# Altium schematic symbol library Allwinner T113-S3.SCHLIB: 1 symbol
Pins are listed as number, name and electrical type; pins without a type are passive.

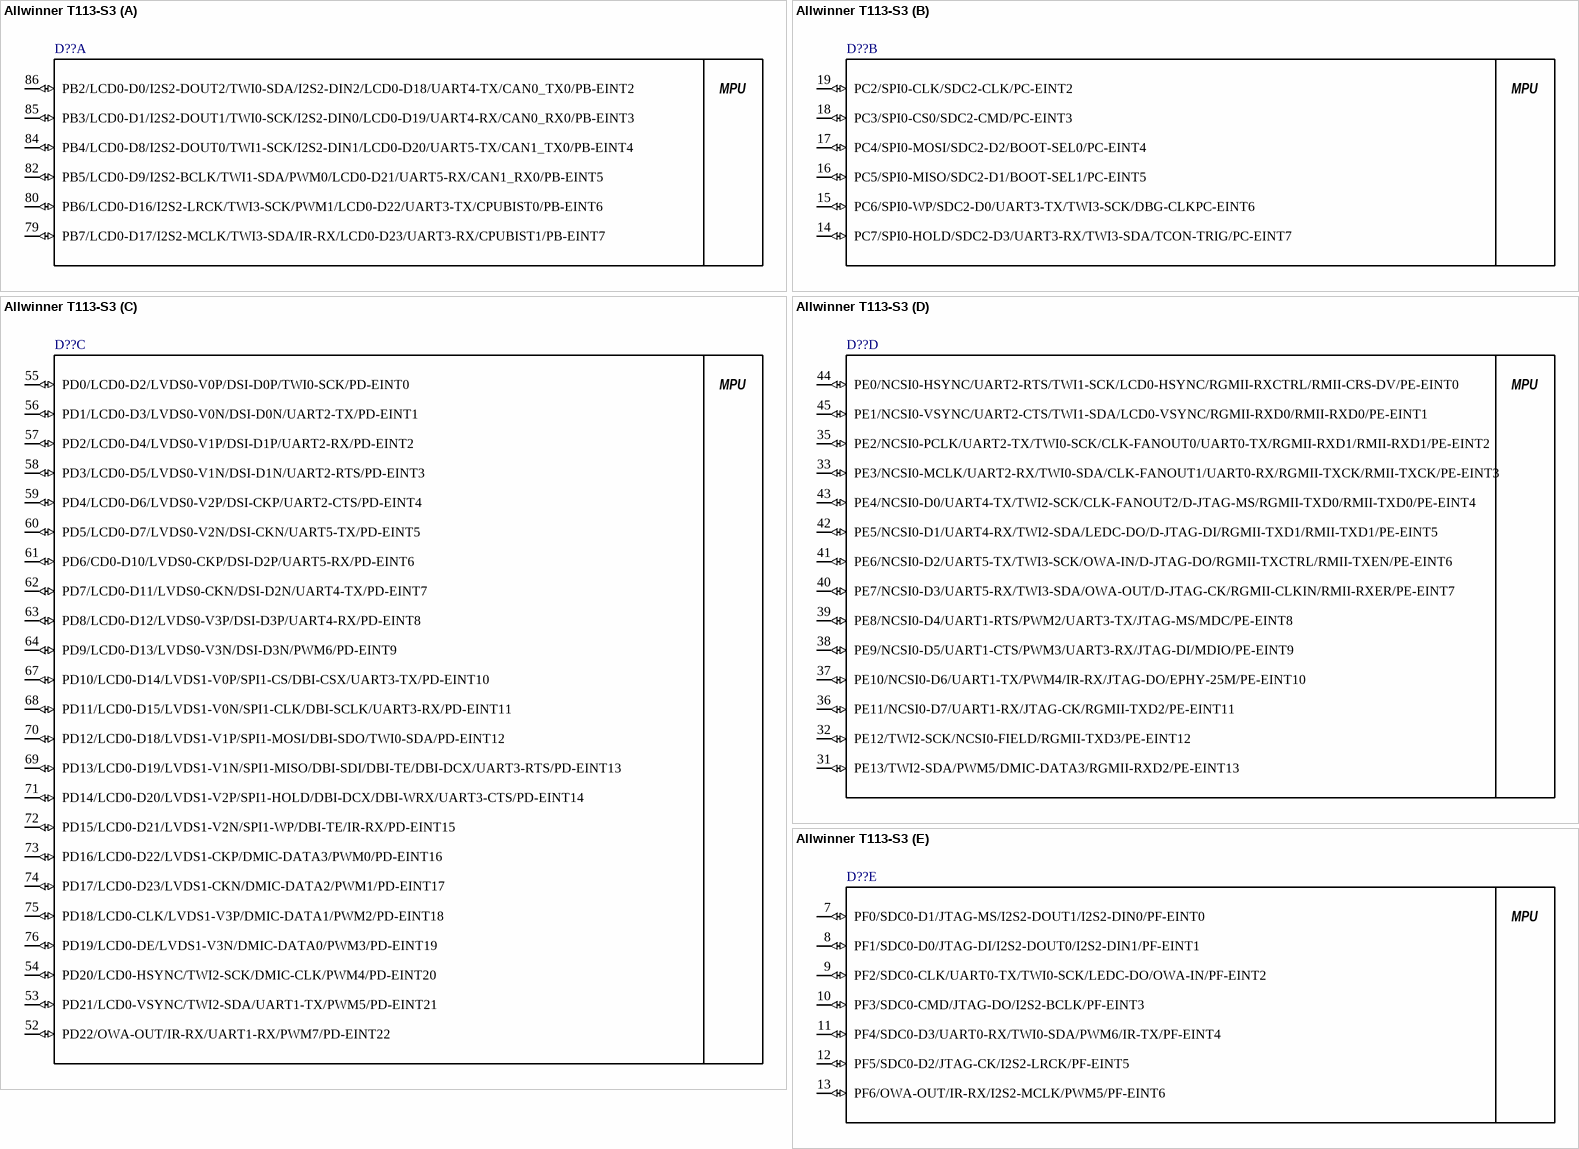
[diagram p0: symbol Allwinner T113-S3]

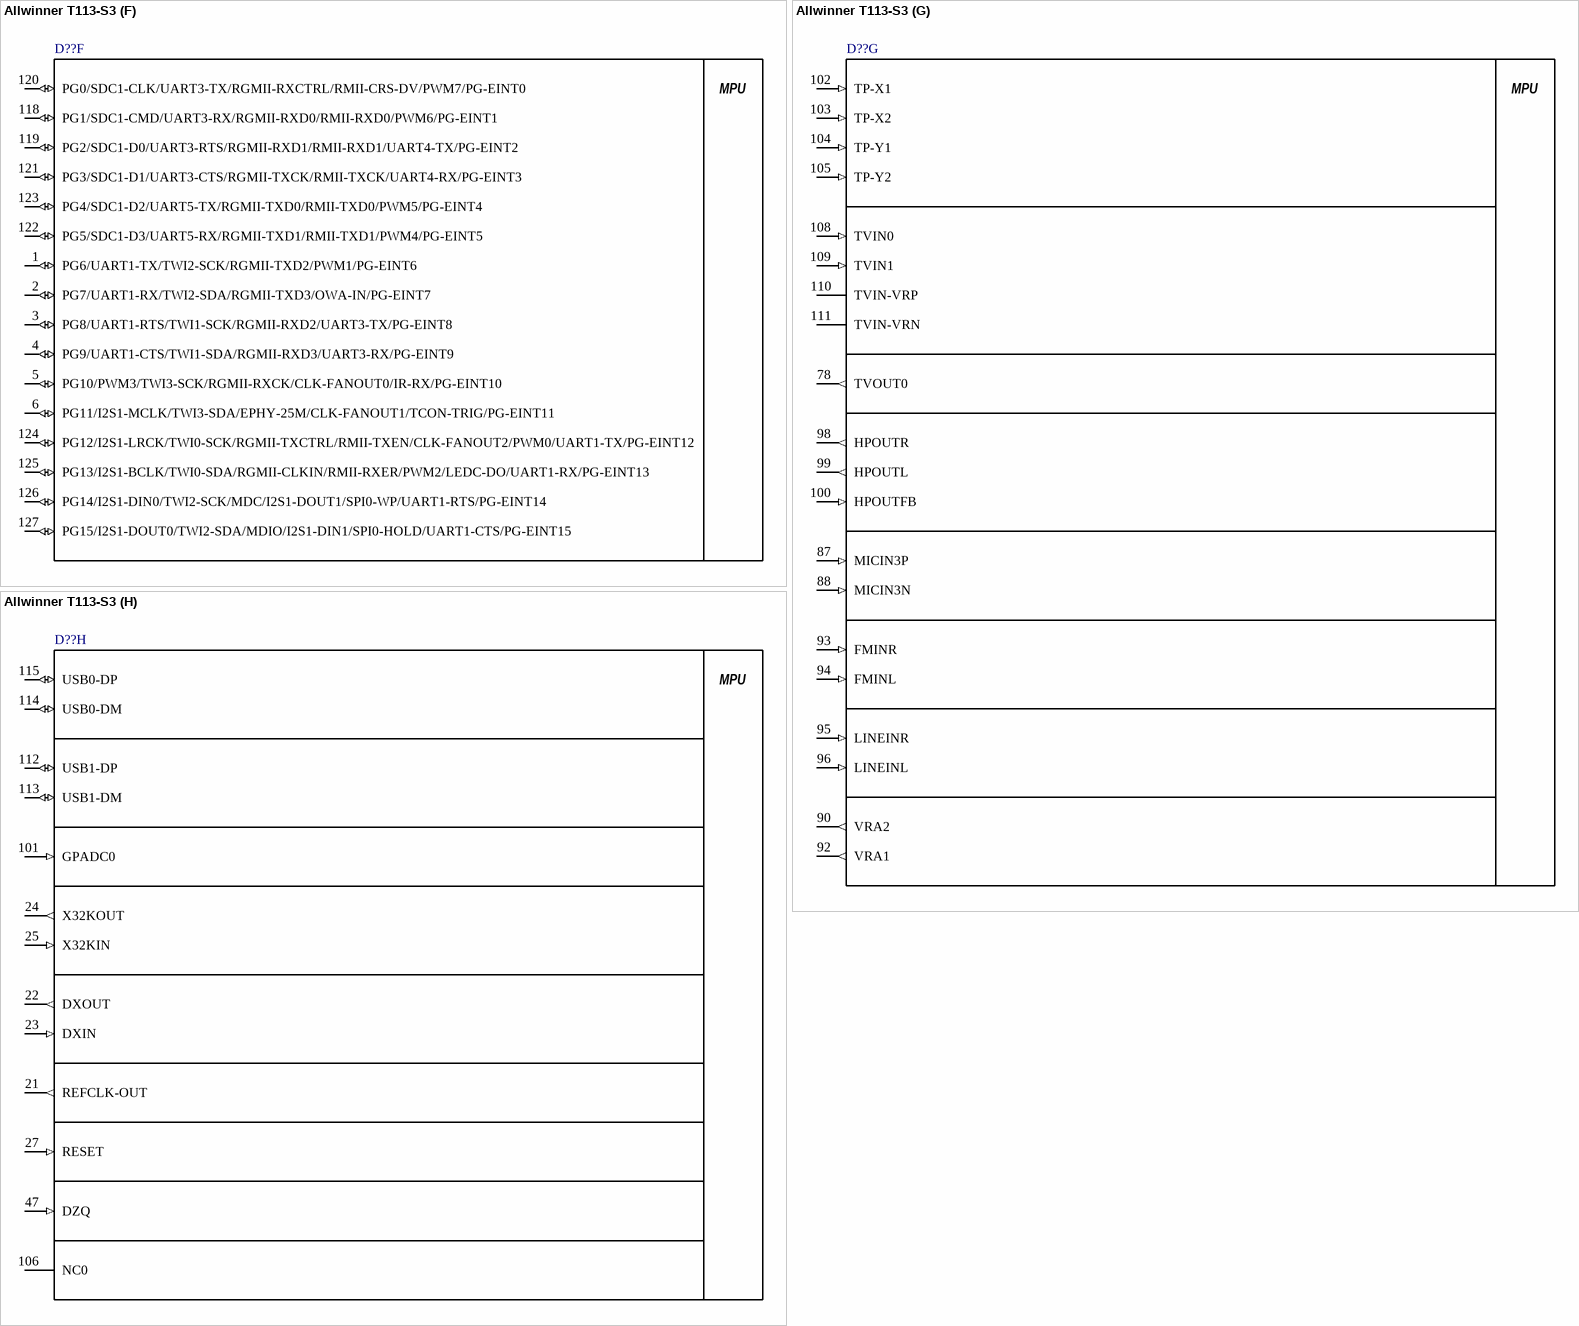
[diagram p1: symbol Allwinner T113-S3]

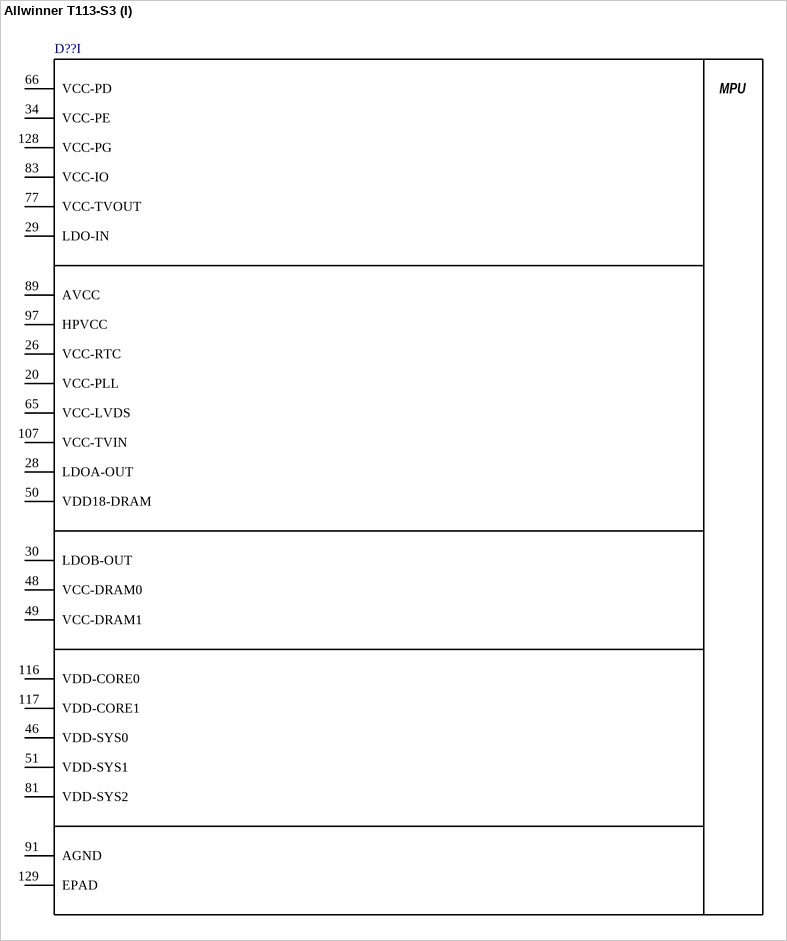
[diagram p2: symbol Allwinner T113-S3]

## Allwinner T113-S3
designator D??, comment T113-S3  (value not drawn)
Integrated circuit; Manufacturer: Allwinner; NameFromManufacturer: Allwinner T113-S3; Part Number: T113-S3; Код SL: *; Place: *; Value: *; Даташит: *; Rem: *; Check: *; Цена ZIP: *; Статус ZIP: *; Примечание ПЭ3: *; Склад ZIP: *
footprint TSQFP40P1600X1600X160_HS-129N (TSQFP, 128-Leads, Body 14.00x14.00mm, Pitch 0.40mm, Thermal Pad 5.72x5.72mm, IPC Medium Density)
part A pins: 79 PB7/LCD0-D17/I2S2-MCLK/TWI3-SDA/IR-RX/LCD0-D23/UART3-RX/CPUBIST1/PB-EINT7 (io), 80 PB6/LCD0-D16/I2S2-LRCK/TWI3-SCK/PWM1/LCD0-D22/UART3-TX/CPUBIST0/PB-EINT6 (io), 82 PB5/LCD0-D9/I2S2-BCLK/TWI1-SDA/PWM0/LCD0-D21/UART5-RX/CAN1_RX0/PB-EINT5 (io), 84 PB4/LCD0-D8/I2S2-DOUT0/TWI1-SCK/I2S2-DIN1/LCD0-D20/UART5-TX/CAN1_TX0/PB-EINT4 (io), 85 PB3/LCD0-D1/I2S2-DOUT1/TWI0-SCK/I2S2-DIN0/LCD0-D19/UART4-RX/CAN0_RX0/PB-EINT3 (io), 86 PB2/LCD0-D0/I2S2-DOUT2/TWI0-SDA/I2S2-DIN2/LCD0-D18/UART4-TX/CAN0_TX0/PB-EINT2 (io)
part B pins: 14 PC7/SPI0-HOLD/SDC2-D3/UART3-RX/TWI3-SDA/TCON-TRIG/PC-EINT7 (io), 15 PC6/SPI0-WP/SDC2-D0/UART3-TX/TWI3-SCK/DBG-CLKPC-EINT6 (io), 16 PC5/SPI0-MISO/SDC2-D1/BOOT-SEL1/PC-EINT5 (io), 17 PC4/SPI0-MOSI/SDC2-D2/BOOT-SEL0/PC-EINT4 (io), 18 PC3/SPI0-CS0/SDC2-CMD/PC-EINT3 (io), 19 PC2/SPI0-CLK/SDC2-CLK/PC-EINT2 (io)
part C pins: 52 PD22/OWA-OUT/IR-RX/UART1-RX/PWM7/PD-EINT22 (io), 53 PD21/LCD0-VSYNC/TWI2-SDA/UART1-TX/PWM5/PD-EINT21 (io), 54 PD20/LCD0-HSYNC/TWI2-SCK/DMIC-CLK/PWM4/PD-EINT20 (io), 55 PD0/LCD0-D2/LVDS0-V0P/DSI-D0P/TWI0-SCK/PD-EINT0 (io), 56 PD1/LCD0-D3/LVDS0-V0N/DSI-D0N/UART2-TX/PD-EINT1 (io), 57 PD2/LCD0-D4/LVDS0-V1P/DSI-D1P/UART2-RX/PD-EINT2 (io), 58 PD3/LCD0-D5/LVDS0-V1N/DSI-D1N/UART2-RTS/PD-EINT3 (io), 59 PD4/LCD0-D6/LVDS0-V2P/DSI-CKP/UART2-CTS/PD-EINT4 (io), 60 PD5/LCD0-D7/LVDS0-V2N/DSI-CKN/UART5-TX/PD-EINT5 (io), 61 PD6/CD0-D10/LVDS0-CKP/DSI-D2P/UART5-RX/PD-EINT6 (io), 62 PD7/LCD0-D11/LVDS0-CKN/DSI-D2N/UART4-TX/PD-EINT7 (io), 63 PD8/LCD0-D12/LVDS0-V3P/DSI-D3P/UART4-RX/PD-EINT8 (io), 64 PD9/LCD0-D13/LVDS0-V3N/DSI-D3N/PWM6/PD-EINT9 (io), 67 PD10/LCD0-D14/LVDS1-V0P/SPI1-CS/DBI-CSX/UART3-TX/PD-EINT10 (io), 68 PD11/LCD0-D15/LVDS1-V0N/SPI1-CLK/DBI-SCLK/UART3-RX/PD-EINT11 (io), 69 PD13/LCD0-D19/LVDS1-V1N/SPI1-MISO/DBI-SDI/DBI-TE/DBI-DCX/UART3-RTS/PD-EINT13 (io), 70 PD12/LCD0-D18/LVDS1-V1P/SPI1-MOSI/DBI-SDO/TWI0-SDA/PD-EINT12 (io), 71 PD14/LCD0-D20/LVDS1-V2P/SPI1-HOLD/DBI-DCX/DBI-WRX/UART3-CTS/PD-EINT14 (io), 72 PD15/LCD0-D21/LVDS1-V2N/SPI1-WP/DBI-TE/IR-RX/PD-EINT15 (io), 73 PD16/LCD0-D22/LVDS1-CKP/DMIC-DATA3/PWM0/PD-EINT16 (io), 74 PD17/LCD0-D23/LVDS1-CKN/DMIC-DATA2/PWM1/PD-EINT17 (io), 75 PD18/LCD0-CLK/LVDS1-V3P/DMIC-DATA1/PWM2/PD-EINT18 (io), 76 PD19/LCD0-DE/LVDS1-V3N/DMIC-DATA0/PWM3/PD-EINT19 (io)
part D pins: 31 PE13/TWI2-SDA/PWM5/DMIC-DATA3/RGMII-RXD2/PE-EINT13 (io), 32 PE12/TWI2-SCK/NCSI0-FIELD/RGMII-TXD3/PE-EINT12 (io), 33 PE3/NCSI0-MCLK/UART2-RX/TWI0-SDA/CLK-FANOUT1/UART0-RX/RGMII-TXCK/RMII-TXCK/PE-EINT3 (io), 35 PE2/NCSI0-PCLK/UART2-TX/TWI0-SCK/CLK-FANOUT0/UART0-TX/RGMII-RXD1/RMII-RXD1/PE-EINT2 (io), 36 PE11/NCSI0-D7/UART1-RX/JTAG-CK/RGMII-TXD2/PE-EINT11 (io), 37 PE10/NCSI0-D6/UART1-TX/PWM4/IR-RX/JTAG-DO/EPHY-25M/PE-EINT10 (io), 38 PE9/NCSI0-D5/UART1-CTS/PWM3/UART3-RX/JTAG-DI/MDIO/PE-EINT9 (io), 39 PE8/NCSI0-D4/UART1-RTS/PWM2/UART3-TX/JTAG-MS/MDC/PE-EINT8 (io), 40 PE7/NCSI0-D3/UART5-RX/TWI3-SDA/OWA-OUT/D-JTAG-CK/RGMII-CLKIN/RMII-RXER/PE-EINT7 (io), 41 PE6/NCSI0-D2/UART5-TX/TWI3-SCK/OWA-IN/D-JTAG-DO/RGMII-TXCTRL/RMII-TXEN/PE-EINT6 (io), 42 PE5/NCSI0-D1/UART4-RX/TWI2-SDA/LEDC-DO/D-JTAG-DI/RGMII-TXD1/RMII-TXD1/PE-EINT5 (io), 43 PE4/NCSI0-D0/UART4-TX/TWI2-SCK/CLK-FANOUT2/D-JTAG-MS/RGMII-TXD0/RMII-TXD0/PE-EINT4 (io), 44 PE0/NCSI0-HSYNC/UART2-RTS/TWI1-SCK/LCD0-HSYNC/RGMII-RXCTRL/RMII-CRS-DV/PE-EINT0 (io), 45 PE1/NCSI0-VSYNC/UART2-CTS/TWI1-SDA/LCD0-VSYNC/RGMII-RXD0/RMII-RXD0/PE-EINT1 (io)
part E pins: 7 PF0/SDC0-D1/JTAG-MS/I2S2-DOUT1/I2S2-DIN0/PF-EINT0 (io), 8 PF1/SDC0-D0/JTAG-DI/I2S2-DOUT0/I2S2-DIN1/PF-EINT1 (io), 9 PF2/SDC0-CLK/UART0-TX/TWI0-SCK/LEDC-DO/OWA-IN/PF-EINT2 (io), 10 PF3/SDC0-CMD/JTAG-DO/I2S2-BCLK/PF-EINT3 (io), 11 PF4/SDC0-D3/UART0-RX/TWI0-SDA/PWM6/IR-TX/PF-EINT4 (io), 12 PF5/SDC0-D2/JTAG-CK/I2S2-LRCK/PF-EINT5 (io), 13 PF6/OWA-OUT/IR-RX/I2S2-MCLK/PWM5/PF-EINT6 (io)
part F pins: 1 PG6/UART1-TX/TWI2-SCK/RGMII-TXD2/PWM1/PG-EINT6 (io), 2 PG7/UART1-RX/TWI2-SDA/RGMII-TXD3/OWA-IN/PG-EINT7 (io), 3 PG8/UART1-RTS/TWI1-SCK/RGMII-RXD2/UART3-TX/PG-EINT8 (io), 4 PG9/UART1-CTS/TWI1-SDA/RGMII-RXD3/UART3-RX/PG-EINT9 (io), 5 PG10/PWM3/TWI3-SCK/RGMII-RXCK/CLK-FANOUT0/IR-RX/PG-EINT10 (io), 6 PG11/I2S1-MCLK/TWI3-SDA/EPHY-25M/CLK-FANOUT1/TCON-TRIG/PG-EINT11 (io), 118 PG1/SDC1-CMD/UART3-RX/RGMII-RXD0/RMII-RXD0/PWM6/PG-EINT1 (io), 119 PG2/SDC1-D0/UART3-RTS/RGMII-RXD1/RMII-RXD1/UART4-TX/PG-EINT2 (io), 120 PG0/SDC1-CLK/UART3-TX/RGMII-RXCTRL/RMII-CRS-DV/PWM7/PG-EINT0 (io), 121 PG3/SDC1-D1/UART3-CTS/RGMII-TXCK/RMII-TXCK/UART4-RX/PG-EINT3 (io), 122 PG5/SDC1-D3/UART5-RX/RGMII-TXD1/RMII-TXD1/PWM4/PG-EINT5 (io), 123 PG4/SDC1-D2/UART5-TX/RGMII-TXD0/RMII-TXD0/PWM5/PG-EINT4 (io), 124 PG12/I2S1-LRCK/TWI0-SCK/RGMII-TXCTRL/RMII-TXEN/CLK-FANOUT2/PWM0/UART1-TX/PG-EINT12 (io), 125 PG13/I2S1-BCLK/TWI0-SDA/RGMII-CLKIN/RMII-RXER/PWM2/LEDC-DO/UART1-RX/PG-EINT13 (io), 126 PG14/I2S1-DIN0/TWI2-SCK/MDC/I2S1-DOUT1/SPI0-WP/UART1-RTS/PG-EINT14 (io), 127 PG15/I2S1-DOUT0/TWI2-SDA/MDIO/I2S1-DIN1/SPI0-HOLD/UART1-CTS/PG-EINT15 (io)
part G pins: 78 TVOUT0 (out), 87 MICIN3P (in), 88 MICIN3N (in), 90 VRA2 (out), 92 VRA1 (out), 93 FMINR (in), 94 FMINL (in), 95 LINEINR (in), 96 LINEINL (in), 98 HPOUTR (out), 99 HPOUTL (out), 100 HPOUTFB (in), 102 TP-X1 (in), 103 TP-X2 (in), 104 TP-Y1 (in), 105 TP-Y2 (in), 108 TVIN0 (in), 109 TVIN1 (in), 110 TVIN-VRP (power), 111 TVIN-VRN (power)
part H pins: 21 REFCLK-OUT (out), 22 DXOUT (out), 23 DXIN (in), 24 X32KOUT (out), 25 X32KIN (in), 27 RESET (in), 47 DZQ (in), 101 GPADC0 (in), 106 NC0, 112 USB1-DP (io), 113 USB1-DM (io), 114 USB0-DM (io), 115 USB0-DP (io)
part I pins: 20 VCC-PLL (power), 26 VCC-RTC (power), 28 LDOA-OUT (power), 29 LDO-IN (power), 30 LDOB-OUT (power), 34 VCC-PE (power), 46 VDD-SYS0 (power), 48 VCC-DRAM0 (power), 49 VCC-DRAM1 (power), 50 VDD18-DRAM (power), 51 VDD-SYS1 (power), 65 VCC-LVDS (power), 66 VCC-PD (power), 77 VCC-TVOUT (power), 81 VDD-SYS2 (power), 83 VCC-IO (power), 89 AVCC (power), 91 AGND (power), 97 HPVCC (power), 107 VCC-TVIN (power), 116 VDD-CORE0 (power), 117 VDD-CORE1 (power), 128 VCC-PG (power), 129 EPAD (power)
part A text: MPU
part B text: MPU
part C text: MPU
part D text: MPU
part E text: MPU
part F text: MPU
part G text: MPU
part H text: MPU
part I text: MPU